# Altium footprint library 1010030682.PcbLib: 1 footprints
Each footprint in its own frame and in the unit in brackets; x right, y up, seen from the top. Pads: shape width x height; smd on the part's side, far side on the other; paste and mask are expansions set on the pad; w line width, h text height; cw(c..) or ccw(c..) is an arc to the next point about the centre after c.
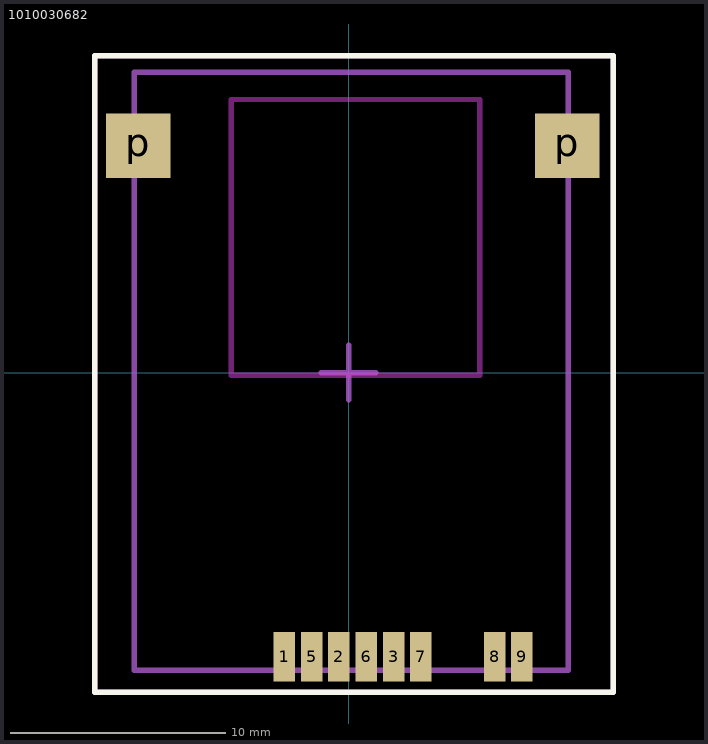
[diagram p0: the footprint, top view; thin cyan lines are the x and y axes]

## 1010030682 [mm]
pads (10):
  rect 1x2.3 smd: 1(-2.984,-13.208) 2(-0.445,-13.208) 3(2.095,-13.208) 5(-1.714,-13.208) 6(0.826,-13.208) 7(3.365,-13.208) 8(6.794,-13.208) 9(8.064,-13.208)
  rect 3x3 smd: p(-9.779,10.541) p(10.16,10.541)
Top Overlay:
  lines w0.254: -11.811,-14.859 -11.811,14.732 12.319,14.732 12.319,-14.859 -11.811,-14.859
Keep-Out Layer:
  lines w0.254: -5.461,-0.127 -5.461,9.779 -5.461,12.7 6.096,12.7 6.096,-0.127 -5.461,-0.127
Top Courtyard:
  lines w0.254: -1.27,0 1.27,0 ; 0,0.635 0,-1.27 0,1.27 ; -11.811,-14.859 12.319,-14.859 12.319,14.732 -11.811,14.732 -11.811,-14.859
Top Assembly:
  lines w0.254: -9.97,-13.843 10.223,-13.843 10.223,13.97 -9.97,13.97 -9.97,-13.843
3D body "User Library-SIM_holder.step": height 1.95, standoff 0, extent -9.97,-13.843 10.231,14.007